# EAGLE library part WL-S7DS_0.56INCH_COMMON-ANODE (library WL-S7DS)
WL-S7DS 7 Segments Display SMT Single Digit Characteristics Industrial standard size and schematic Low power consumption Grey surface Milky / Diffuesed segments Driving with DC current in forward direction only Suitable for high peak current upto 100 mA Applications Audio / measure equipment Instrument panels Digital read out display Control units <https://www.we-online.com/components/media/o335301v209%20WL-S7DS_Group.jpg> Details see: www.we-online.com/en/components/products/WL_S7DS <www.we-online.com/catalog/WL_S7DS/?utm_source=eagle_model&utm_medium=description_link&utm_campaign=eisos_eagle> Updated by Ella Wu, 2022-05-12 2022 (C) Wurth Elektronik
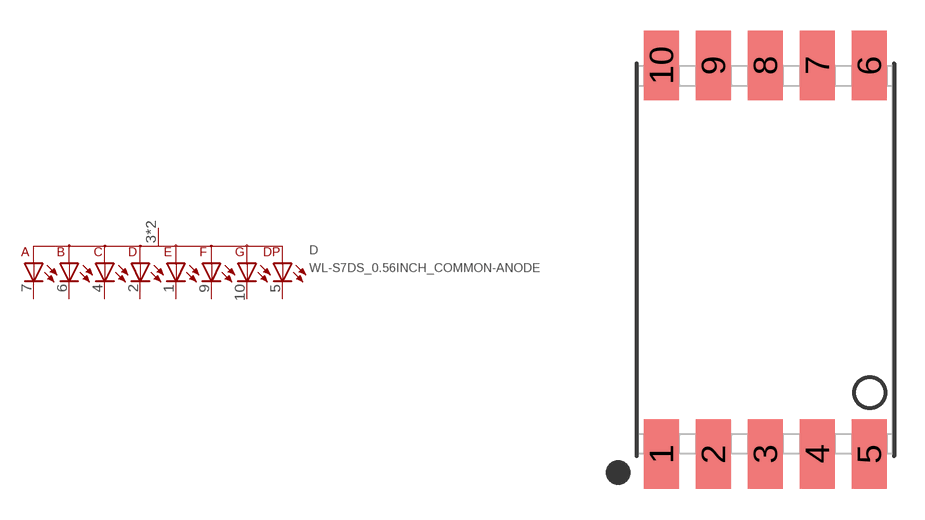
[diagram p3: symbol with the pads of WL-S7DS_0.56INCH; footprint WL-S7DS_0.56INCH]

Designator prefix D

## WL-S7DS_0.56INCH_COMMON-ANODE_157143B12800 (CIRCUITRY: Common Anode; DATASHEET-URL: https://www.we-online.com/redexpert/spec/157143B12800?ae; EMITTING-COLOR: Blue; FORWARD-VOLTAGE-TYP: 3V; HEIGHT: 3.75mm; LENGTH: 19mm; LUMINOUS-INTENSITY-TYP: 32mcd; PART-NUMBER: 157143B12800; VALUE: 157143B12800; WIDTH: 12.4mm), WL-S7DS_0.56INCH_COMMON-ANODE_157143S12800 (CIRCUITRY: Common Anode; DATASHEET-URL: https://www.we-online.com/redexpert/spec/157143S12800?ae; EMITTING-COLOR: Super Red; FORWARD-VOLTAGE-TYP: 2V; HEIGHT: 3.75mm; LENGTH: 19mm; LUMINOUS-INTENSITY-TYP: 28mcd; PART-NUMBER: 157143S12800; VALUE: 157143S12800; WIDTH: 12.4mm), WL-S7DS_0.56INCH_COMMON-ANODE_157143V12800 (CIRCUITRY: Common Anode; DATASHEET-URL: https://www.we-online.com/redexpert/spec/157143V12800?ae; EMITTING-COLOR: Bright Green; FORWARD-VOLTAGE-TYP: 2V; HEIGHT: 3.75mm; LENGTH: 19mm; LUMINOUS-INTENSITY-TYP: 35mcd; PART-NUMBER: 157143V12800; VALUE: 157143V12800; WIDTH: 12.4mm)  [WL-S7DS_0.56INCH]
1  1  pas
2  2  pas
3  +  pas
4  4  pas
5  5  pas
6  6  pas
7  7  pas
8  +  pas
9  9  pas
10  10  pas

## Footprint WL-S7DS_0.56INCH (pad centres in mm)
WL-S7DS 7 Segments Display SMT Single Digit Size: 0.56inch, SMT, 10pins L X W X H=19mm X 12.4mm X 3.75mm
smd 1.7 x 3.4: 1 -5.08,-9.5; 2 -2.54,-9.5; 3 0,-9.5; 4 2.54,-9.5; 5 5.08,-9.5; 6 5.08,9.5; 7 2.54,9.5; 8 0,9.5; 9 -2.54,9.5; 10 -5.08,9.5